# Altium footprint library Cypress Footprints.PcbLib: 193 footprints (part 12 of 13)
Each footprint in its own frame and in the unit in brackets; x right, y up, seen from the top. Pads: shape width x height; smd on the part's side, far side on the other; paste and mask are expansions set on the pad; w line width, h text height; cw(c..) or ccw(c..) is an arc to the next point about the centre after c.
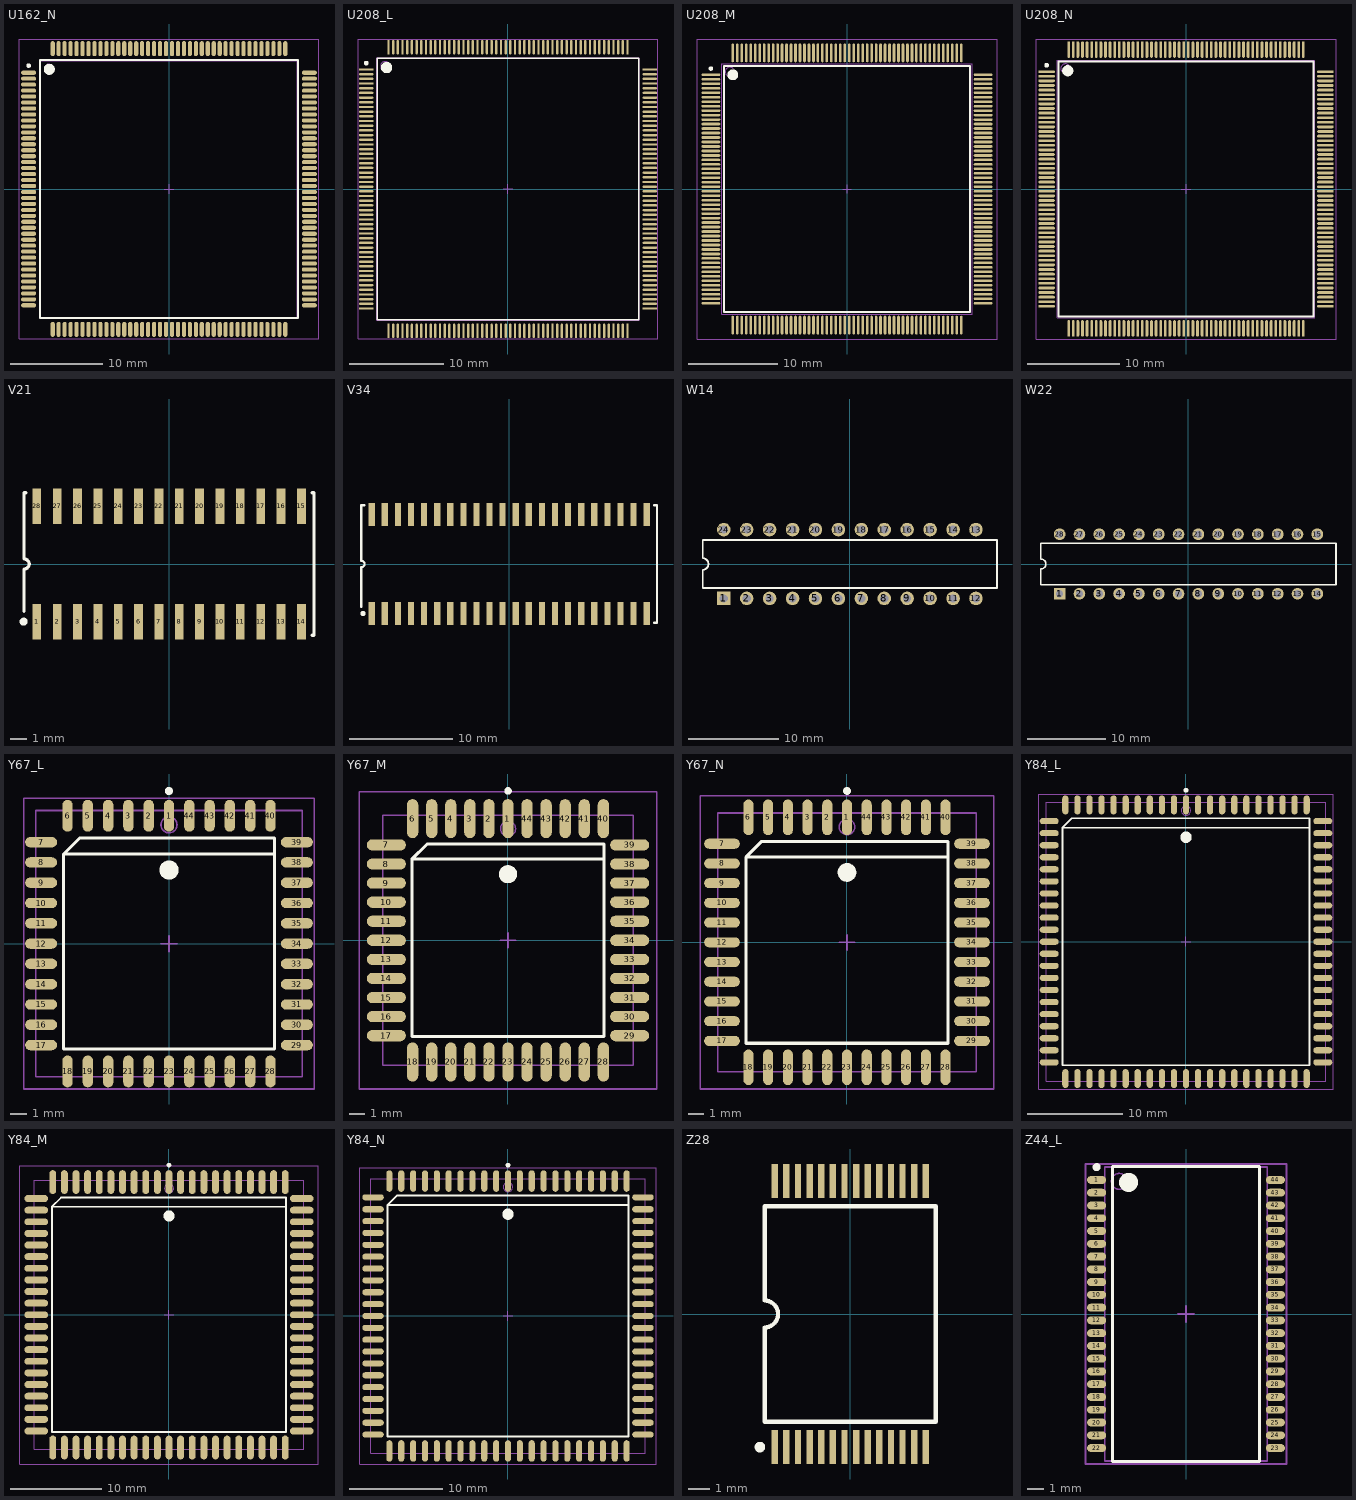
[diagram p11: the footprints below, top view; thin cyan lines are the x and y axes]

## U162_N [mm] "160-Pin Ceramic Cavity Up Quad Flat Pack 0.65 mm Pitch, IPC Medium Density"
height 2.79
pads (160):
  oval 1.65x0.45 smd: 1(-15.3,12.675) 2(-15.3,12.025) 3(-15.3,11.375) 4(-15.3,10.725) 5(-15.3,10.075) 6(-15.3,9.425) 7(-15.3,8.775) 8(-15.3,8.125) 9(-15.3,7.475) 10(-15.3,6.825) 11(-15.3,6.175) 12(-15.3,5.525) 13(-15.3,4.875) 14(-15.3,4.225) 15(-15.3,3.575) 16(-15.3,2.925) 17(-15.3,2.275) 18(-15.3,1.625) 19(-15.3,0.975) 20(-15.3,0.325) 21(-15.3,-0.325) 22(-15.3,-0.975) 23(-15.3,-1.625) 24(-15.3,-2.275) 25(-15.3,-2.925) 26(-15.3,-3.575) 27(-15.3,-4.225) 28(-15.3,-4.875) 29(-15.3,-5.525) 30(-15.3,-6.175) 31(-15.3,-6.825) 32(-15.3,-7.475) 33(-15.3,-8.125) 34(-15.3,-8.775) 35(-15.3,-9.425) 36(-15.3,-10.075) 37(-15.3,-10.725) 38(-15.3,-11.375) 39(-15.3,-12.025) 40(-15.3,-12.675) 81(15.3,-12.675) 82(15.3,-12.025) 83(15.3,-11.375) 84(15.3,-10.725) 85(15.3,-10.075) 86(15.3,-9.425) 87(15.3,-8.775) 88(15.3,-8.125) 89(15.3,-7.475) 90(15.3,-6.825) 91(15.3,-6.175) 92(15.3,-5.525) 93(15.3,-4.875) 94(15.3,-4.225) 95(15.3,-3.575) 96(15.3,-2.925) 97(15.3,-2.275) 98(15.3,-1.625) 99(15.3,-0.975) 100(15.3,-0.325) 101(15.3,0.325) 102(15.3,0.975) 103(15.3,1.625) 104(15.3,2.275) 105(15.3,2.925) 106(15.3,3.575) 107(15.3,4.225) 108(15.3,4.875) 109(15.3,5.525) 110(15.3,6.175) 111(15.3,6.825) 112(15.3,7.475) 113(15.3,8.125) 114(15.3,8.775) 115(15.3,9.425) 116(15.3,10.075) 117(15.3,10.725) 118(15.3,11.375) 119(15.3,12.025) 120(15.3,12.675)
  oval 0.45x1.65 smd: 41(-12.675,-15.3) 42(-12.025,-15.3) 43(-11.375,-15.3) 44(-10.725,-15.3) 45(-10.075,-15.3) 46(-9.425,-15.3) 47(-8.775,-15.3) 48(-8.125,-15.3) 49(-7.475,-15.3) 50(-6.825,-15.3) 51(-6.175,-15.3) 52(-5.525,-15.3) 53(-4.875,-15.3) 54(-4.225,-15.3) 55(-3.575,-15.3) 56(-2.925,-15.3) 57(-2.275,-15.3) 58(-1.625,-15.3) 59(-0.975,-15.3) 60(-0.325,-15.3) 61(0.325,-15.3) 62(0.975,-15.3) 63(1.625,-15.3) 64(2.275,-15.3) 65(2.925,-15.3) 66(3.575,-15.3) 67(4.225,-15.3) 68(4.875,-15.3) 69(5.525,-15.3) 70(6.175,-15.3) 71(6.825,-15.3) 72(7.475,-15.3) 73(8.125,-15.3) 74(8.775,-15.3) 75(9.425,-15.3) 76(10.075,-15.3) 77(10.725,-15.3) 78(11.375,-15.3) 79(12.025,-15.3) 80(12.675,-15.3) 121(12.675,15.3) 122(12.025,15.3) 123(11.375,15.3) 124(10.725,15.3) 125(10.075,15.3) 126(9.425,15.3) 127(8.775,15.3) 128(8.125,15.3) 129(7.475,15.3) 130(6.825,15.3) 131(6.175,15.3) 132(5.525,15.3) 133(4.875,15.3) 134(4.225,15.3) 135(3.575,15.3) 136(2.925,15.3) 137(2.275,15.3) 138(1.625,15.3) 139(0.975,15.3) 140(0.325,15.3) 141(-0.325,15.3) 142(-0.975,15.3) 143(-1.625,15.3) 144(-2.275,15.3) 145(-2.925,15.3) 146(-3.575,15.3) 147(-4.225,15.3) 148(-4.875,15.3) 149(-5.525,15.3) 150(-6.175,15.3) 151(-6.825,15.3) 152(-7.475,15.3) 153(-8.125,15.3) 154(-8.775,15.3) 155(-9.425,15.3) 156(-10.075,15.3) 157(-10.725,15.3) 158(-11.375,15.3) 159(-12.025,15.3) 160(-12.675,15.3)
Top Overlay:
  circle w0.6: c-13.05,13.05 r0.3
  circle w0.25: c-15.3,13.45 r0.125
  lines w0.2: -14.05,-14.05 14.05,-14.05 14.05,14.05 -14.05,14.05 -14.05,-14.05
Mechanical 13:
  circle w0.1: c-13.1,13.1 r0.5
  lines w0.1: -14,-14 14,-14 14,14 -14,14 -14,-14
Mechanical 15:
  lines w0.1: -0.5,0 0.5,0 ; 0,-0.5 0,0.5 ; -16.35,-16.35 16.35,-16.35 16.35,16.35 -16.35,16.35 -16.35,-16.35
3D body: height 2.79, standoff 0, extent -14,-14 14,14

## U208_L [mm] "208-Pin Ceramic Cavity Up Shrink Quad Flat Pack 0.5 mm Pitch, IPC High Density"
height 2.94
pads (208):
  oval 1.55x0.25 smd: 1(-15.125,12.75) 2(-15.125,12.25) 3(-15.125,11.75) 4(-15.125,11.25) 5(-15.125,10.75) 6(-15.125,10.25) 7(-15.125,9.75) 8(-15.125,9.25) 9(-15.125,8.75) 10(-15.125,8.25) 11(-15.125,7.75) 12(-15.125,7.25) 13(-15.125,6.75) 14(-15.125,6.25) 15(-15.125,5.75) 16(-15.125,5.25) 17(-15.125,4.75) 18(-15.125,4.25) 19(-15.125,3.75) 20(-15.125,3.25) 21(-15.125,2.75) 22(-15.125,2.25) 23(-15.125,1.75) 24(-15.125,1.25) 25(-15.125,0.75) 26(-15.125,0.25) 27(-15.125,-0.25) 28(-15.125,-0.75) 29(-15.125,-1.25) 30(-15.125,-1.75) 31(-15.125,-2.25) 32(-15.125,-2.75) 33(-15.125,-3.25) 34(-15.125,-3.75) 35(-15.125,-4.25) 36(-15.125,-4.75) 37(-15.125,-5.25) 38(-15.125,-5.75) 39(-15.125,-6.25) 40(-15.125,-6.75) 41(-15.125,-7.25) 42(-15.125,-7.75) 43(-15.125,-8.25) 44(-15.125,-8.75) 45(-15.125,-9.25) 46(-15.125,-9.75) 47(-15.125,-10.25) 48(-15.125,-10.75) 49(-15.125,-11.25) 50(-15.125,-11.75) 51(-15.125,-12.25) 52(-15.125,-12.75) 105(15.125,-12.75) 106(15.125,-12.25) 107(15.125,-11.75) 108(15.125,-11.25) 109(15.125,-10.75) 110(15.125,-10.25) 111(15.125,-9.75) 112(15.125,-9.25) 113(15.125,-8.75) 114(15.125,-8.25) 115(15.125,-7.75) 116(15.125,-7.25) 117(15.125,-6.75) 118(15.125,-6.25) 119(15.125,-5.75) 120(15.125,-5.25) 121(15.125,-4.75) 122(15.125,-4.25) 123(15.125,-3.75) 124(15.125,-3.25) 125(15.125,-2.75) 126(15.125,-2.25) 127(15.125,-1.75) 128(15.125,-1.25) 129(15.125,-0.75) 130(15.125,-0.25) 131(15.125,0.25) 132(15.125,0.75) 133(15.125,1.25) 134(15.125,1.75) 135(15.125,2.25) 136(15.125,2.75) 137(15.125,3.25) 138(15.125,3.75) 139(15.125,4.25) 140(15.125,4.75) 141(15.125,5.25) 142(15.125,5.75) 143(15.125,6.25) 144(15.125,6.75) 145(15.125,7.25) 146(15.125,7.75) 147(15.125,8.25) 148(15.125,8.75) 149(15.125,9.25) 150(15.125,9.75) 151(15.125,10.25) 152(15.125,10.75) 153(15.125,11.25) 154(15.125,11.75) 155(15.125,12.25) 156(15.125,12.75)
  oval 0.25x1.55 smd: 53(-12.75,-15.125) 54(-12.25,-15.125) 55(-11.75,-15.125) 56(-11.25,-15.125) 57(-10.75,-15.125) 58(-10.25,-15.125) 59(-9.75,-15.125) 60(-9.25,-15.125) 61(-8.75,-15.125) 62(-8.25,-15.125) 63(-7.75,-15.125) 64(-7.25,-15.125) 65(-6.75,-15.125) 66(-6.25,-15.125) 67(-5.75,-15.125) 68(-5.25,-15.125) 69(-4.75,-15.125) 70(-4.25,-15.125) 71(-3.75,-15.125) 72(-3.25,-15.125) 73(-2.75,-15.125) 74(-2.25,-15.125) 75(-1.75,-15.125) 76(-1.25,-15.125) 77(-0.75,-15.125) 78(-0.25,-15.125) 79(0.25,-15.125) 80(0.75,-15.125) 81(1.25,-15.125) 82(1.75,-15.125) 83(2.25,-15.125) 84(2.75,-15.125) 85(3.25,-15.125) 86(3.75,-15.125) 87(4.25,-15.125) 88(4.75,-15.125) 89(5.25,-15.125) 90(5.75,-15.125) 91(6.25,-15.125) 92(6.75,-15.125) 93(7.25,-15.125) 94(7.75,-15.125) 95(8.25,-15.125) 96(8.75,-15.125) 97(9.25,-15.125) 98(9.75,-15.125) 99(10.25,-15.125) 100(10.75,-15.125) 101(11.25,-15.125) 102(11.75,-15.125) 103(12.25,-15.125) 104(12.75,-15.125) 157(12.75,15.125) 158(12.25,15.125) 159(11.75,15.125) 160(11.25,15.125) 161(10.75,15.125) 162(10.25,15.125) 163(9.75,15.125) 164(9.25,15.125) 165(8.75,15.125) 166(8.25,15.125) 167(7.75,15.125) 168(7.25,15.125) 169(6.75,15.125) 170(6.25,15.125) 171(5.75,15.125) 172(5.25,15.125) 173(4.75,15.125) 174(4.25,15.125) 175(3.75,15.125) 176(3.25,15.125) 177(2.75,15.125) 178(2.25,15.125) 179(1.75,15.125) 180(1.25,15.125) 181(0.75,15.125) 182(0.25,15.125) 183(-0.25,15.125) 184(-0.75,15.125) 185(-1.25,15.125) 186(-1.75,15.125) 187(-2.25,15.125) 188(-2.75,15.125) 189(-3.25,15.125) 190(-3.75,15.125) 191(-4.25,15.125) 192(-4.75,15.125) 193(-5.25,15.125) 194(-5.75,15.125) 195(-6.25,15.125) 196(-6.75,15.125) 197(-7.25,15.125) 198(-7.75,15.125) 199(-8.25,15.125) 200(-8.75,15.125) 201(-9.25,15.125) 202(-9.75,15.125) 203(-10.25,15.125) 204(-10.75,15.125) 205(-11.25,15.125) 206(-11.75,15.125) 207(-12.25,15.125) 208(-12.75,15.125)
Top Overlay:
  circle w0.6: c-12.95,12.95 r0.3
  circle w0.25: c-15.125,13.425 r0.125
  lines w0.2: -13.95,-13.95 13.95,-13.95 13.95,13.95 -13.95,13.95 -13.95,-13.95
Mechanical 13:
  circle w0.1: c-13.1,13.1 r0.5
  lines w0.1: -14,-14 14,-14 14,14 -14,14 -14,-14
Mechanical 15:
  lines w0.1: -0.5,0 0.5,0 ; 0,-0.5 0,0.5 ; -16,-16 16,-16 16,16 -16,16 -16,-16
3D body: height 2.94, standoff 0, extent -14,-14 14,14

## U208_M [mm] "208-Pin Ceramic Cavity Up Shrink Quad Flat Pack 0.5 mm Pitch, IPC Low Density"
height 2.94
pads (208):
  oval 2.1x0.3 smd: 1(-15.2,12.75) 2(-15.2,12.25) 3(-15.2,11.75) 4(-15.2,11.25) 5(-15.2,10.75) 6(-15.2,10.25) 7(-15.2,9.75) 8(-15.2,9.25) 9(-15.2,8.75) 10(-15.2,8.25) 11(-15.2,7.75) 12(-15.2,7.25) 13(-15.2,6.75) 14(-15.2,6.25) 15(-15.2,5.75) 16(-15.2,5.25) 17(-15.2,4.75) 18(-15.2,4.25) 19(-15.2,3.75) 20(-15.2,3.25) 21(-15.2,2.75) 22(-15.2,2.25) 23(-15.2,1.75) 24(-15.2,1.25) 25(-15.2,0.75) 26(-15.2,0.25) 27(-15.2,-0.25) 28(-15.2,-0.75) 29(-15.2,-1.25) 30(-15.2,-1.75) 31(-15.2,-2.25) 32(-15.2,-2.75) 33(-15.2,-3.25) 34(-15.2,-3.75) 35(-15.2,-4.25) 36(-15.2,-4.75) 37(-15.2,-5.25) 38(-15.2,-5.75) 39(-15.2,-6.25) 40(-15.2,-6.75) 41(-15.2,-7.25) 42(-15.2,-7.75) 43(-15.2,-8.25) 44(-15.2,-8.75) 45(-15.2,-9.25) 46(-15.2,-9.75) 47(-15.2,-10.25) 48(-15.2,-10.75) 49(-15.2,-11.25) 50(-15.2,-11.75) 51(-15.2,-12.25) 52(-15.2,-12.75) 105(15.2,-12.75) 106(15.2,-12.25) 107(15.2,-11.75) 108(15.2,-11.25) 109(15.2,-10.75) 110(15.2,-10.25) 111(15.2,-9.75) 112(15.2,-9.25) 113(15.2,-8.75) 114(15.2,-8.25) 115(15.2,-7.75) 116(15.2,-7.25) 117(15.2,-6.75) 118(15.2,-6.25) 119(15.2,-5.75) 120(15.2,-5.25) 121(15.2,-4.75) 122(15.2,-4.25) 123(15.2,-3.75) 124(15.2,-3.25) 125(15.2,-2.75) 126(15.2,-2.25) 127(15.2,-1.75) 128(15.2,-1.25) 129(15.2,-0.75) 130(15.2,-0.25) 131(15.2,0.25) 132(15.2,0.75) 133(15.2,1.25) 134(15.2,1.75) 135(15.2,2.25) 136(15.2,2.75) 137(15.2,3.25) 138(15.2,3.75) 139(15.2,4.25) 140(15.2,4.75) 141(15.2,5.25) 142(15.2,5.75) 143(15.2,6.25) 144(15.2,6.75) 145(15.2,7.25) 146(15.2,7.75) 147(15.2,8.25) 148(15.2,8.75) 149(15.2,9.25) 150(15.2,9.75) 151(15.2,10.25) 152(15.2,10.75) 153(15.2,11.25) 154(15.2,11.75) 155(15.2,12.25) 156(15.2,12.75)
  oval 0.3x2.1 smd: 53(-12.75,-15.2) 54(-12.25,-15.2) 55(-11.75,-15.2) 56(-11.25,-15.2) 57(-10.75,-15.2) 58(-10.25,-15.2) 59(-9.75,-15.2) 60(-9.25,-15.2) 61(-8.75,-15.2) 62(-8.25,-15.2) 63(-7.75,-15.2) 64(-7.25,-15.2) 65(-6.75,-15.2) 66(-6.25,-15.2) 67(-5.75,-15.2) 68(-5.25,-15.2) 69(-4.75,-15.2) 70(-4.25,-15.2) 71(-3.75,-15.2) 72(-3.25,-15.2) 73(-2.75,-15.2) 74(-2.25,-15.2) 75(-1.75,-15.2) 76(-1.25,-15.2) 77(-0.75,-15.2) 78(-0.25,-15.2) 79(0.25,-15.2) 80(0.75,-15.2) 81(1.25,-15.2) 82(1.75,-15.2) 83(2.25,-15.2) 84(2.75,-15.2) 85(3.25,-15.2) 86(3.75,-15.2) 87(4.25,-15.2) 88(4.75,-15.2) 89(5.25,-15.2) 90(5.75,-15.2) 91(6.25,-15.2) 92(6.75,-15.2) 93(7.25,-15.2) 94(7.75,-15.2) 95(8.25,-15.2) 96(8.75,-15.2) 97(9.25,-15.2) 98(9.75,-15.2) 99(10.25,-15.2) 100(10.75,-15.2) 101(11.25,-15.2) 102(11.75,-15.2) 103(12.25,-15.2) 104(12.75,-15.2) 157(12.75,15.2) 158(12.25,15.2) 159(11.75,15.2) 160(11.25,15.2) 161(10.75,15.2) 162(10.25,15.2) 163(9.75,15.2) 164(9.25,15.2) 165(8.75,15.2) 166(8.25,15.2) 167(7.75,15.2) 168(7.25,15.2) 169(6.75,15.2) 170(6.25,15.2) 171(5.75,15.2) 172(5.25,15.2) 173(4.75,15.2) 174(4.25,15.2) 175(3.75,15.2) 176(3.25,15.2) 177(2.75,15.2) 178(2.25,15.2) 179(1.75,15.2) 180(1.25,15.2) 181(0.75,15.2) 182(0.25,15.2) 183(-0.25,15.2) 184(-0.75,15.2) 185(-1.25,15.2) 186(-1.75,15.2) 187(-2.25,15.2) 188(-2.75,15.2) 189(-3.25,15.2) 190(-3.75,15.2) 191(-4.25,15.2) 192(-4.75,15.2) 193(-5.25,15.2) 194(-5.75,15.2) 195(-6.25,15.2) 196(-6.75,15.2) 197(-7.25,15.2) 198(-7.75,15.2) 199(-8.25,15.2) 200(-8.75,15.2) 201(-9.25,15.2) 202(-9.75,15.2) 203(-10.25,15.2) 204(-10.75,15.2) 205(-11.25,15.2) 206(-11.75,15.2) 207(-12.25,15.2) 208(-12.75,15.2)
Top Overlay:
  circle w0.6: c-12.75,12.75 r0.3
  circle w0.25: c-15.2,13.45 r0.125
  lines w0.2: -13.75,-13.75 13.75,-13.75 13.75,13.75 -13.75,13.75 -13.75,-13.75
Mechanical 13:
  circle w0.1: c-13.1,13.1 r0.5
  lines w0.1: -14,-14 14,-14 14,14 -14,14 -14,-14
Mechanical 15:
  lines w0.1: -0.5,0 0.5,0 ; 0,-0.5 0,0.5 ; -16.75,-16.75 16.75,-16.75 16.75,16.75 -16.75,16.75 -16.75,-16.75
3D body: height 2.94, standoff 0, extent -14,-14 14,14

## U208_N [mm] "208-Pin Ceramic Cavity Up Shrink Quad Flat Pack 0.5 mm Pitch, IPC Medium Density"
height 2.94
pads (208):
  oval 1.8x0.3 smd: 1(-15.15,12.75) 2(-15.15,12.25) 3(-15.15,11.75) 4(-15.15,11.25) 5(-15.15,10.75) 6(-15.15,10.25) 7(-15.15,9.75) 8(-15.15,9.25) 9(-15.15,8.75) 10(-15.15,8.25) 11(-15.15,7.75) 12(-15.15,7.25) 13(-15.15,6.75) 14(-15.15,6.25) 15(-15.15,5.75) 16(-15.15,5.25) 17(-15.15,4.75) 18(-15.15,4.25) 19(-15.15,3.75) 20(-15.15,3.25) 21(-15.15,2.75) 22(-15.15,2.25) 23(-15.15,1.75) 24(-15.15,1.25) 25(-15.15,0.75) 26(-15.15,0.25) 27(-15.15,-0.25) 28(-15.15,-0.75) 29(-15.15,-1.25) 30(-15.15,-1.75) 31(-15.15,-2.25) 32(-15.15,-2.75) 33(-15.15,-3.25) 34(-15.15,-3.75) 35(-15.15,-4.25) 36(-15.15,-4.75) 37(-15.15,-5.25) 38(-15.15,-5.75) 39(-15.15,-6.25) 40(-15.15,-6.75) 41(-15.15,-7.25) 42(-15.15,-7.75) 43(-15.15,-8.25) 44(-15.15,-8.75) 45(-15.15,-9.25) 46(-15.15,-9.75) 47(-15.15,-10.25) 48(-15.15,-10.75) 49(-15.15,-11.25) 50(-15.15,-11.75) 51(-15.15,-12.25) 52(-15.15,-12.75) 105(15.15,-12.75) 106(15.15,-12.25) 107(15.15,-11.75) 108(15.15,-11.25) 109(15.15,-10.75) 110(15.15,-10.25) 111(15.15,-9.75) 112(15.15,-9.25) 113(15.15,-8.75) 114(15.15,-8.25) 115(15.15,-7.75) 116(15.15,-7.25) 117(15.15,-6.75) 118(15.15,-6.25) 119(15.15,-5.75) 120(15.15,-5.25) 121(15.15,-4.75) 122(15.15,-4.25) 123(15.15,-3.75) 124(15.15,-3.25) 125(15.15,-2.75) 126(15.15,-2.25) 127(15.15,-1.75) 128(15.15,-1.25) 129(15.15,-0.75) 130(15.15,-0.25) 131(15.15,0.25) 132(15.15,0.75) 133(15.15,1.25) 134(15.15,1.75) 135(15.15,2.25) 136(15.15,2.75) 137(15.15,3.25) 138(15.15,3.75) 139(15.15,4.25) 140(15.15,4.75) 141(15.15,5.25) 142(15.15,5.75) 143(15.15,6.25) 144(15.15,6.75) 145(15.15,7.25) 146(15.15,7.75) 147(15.15,8.25) 148(15.15,8.75) 149(15.15,9.25) 150(15.15,9.75) 151(15.15,10.25) 152(15.15,10.75) 153(15.15,11.25) 154(15.15,11.75) 155(15.15,12.25) 156(15.15,12.75)
  oval 0.3x1.8 smd: 53(-12.75,-15.15) 54(-12.25,-15.15) 55(-11.75,-15.15) 56(-11.25,-15.15) 57(-10.75,-15.15) 58(-10.25,-15.15) 59(-9.75,-15.15) 60(-9.25,-15.15) 61(-8.75,-15.15) 62(-8.25,-15.15) 63(-7.75,-15.15) 64(-7.25,-15.15) 65(-6.75,-15.15) 66(-6.25,-15.15) 67(-5.75,-15.15) 68(-5.25,-15.15) 69(-4.75,-15.15) 70(-4.25,-15.15) 71(-3.75,-15.15) 72(-3.25,-15.15) 73(-2.75,-15.15) 74(-2.25,-15.15) 75(-1.75,-15.15) 76(-1.25,-15.15) 77(-0.75,-15.15) 78(-0.25,-15.15) 79(0.25,-15.15) 80(0.75,-15.15) 81(1.25,-15.15) 82(1.75,-15.15) 83(2.25,-15.15) 84(2.75,-15.15) 85(3.25,-15.15) 86(3.75,-15.15) 87(4.25,-15.15) 88(4.75,-15.15) 89(5.25,-15.15) 90(5.75,-15.15) 91(6.25,-15.15) 92(6.75,-15.15) 93(7.25,-15.15) 94(7.75,-15.15) 95(8.25,-15.15) 96(8.75,-15.15) 97(9.25,-15.15) 98(9.75,-15.15) 99(10.25,-15.15) 100(10.75,-15.15) 101(11.25,-15.15) 102(11.75,-15.15) 103(12.25,-15.15) 104(12.75,-15.15) 157(12.75,15.15) 158(12.25,15.15) 159(11.75,15.15) 160(11.25,15.15) 161(10.75,15.15) 162(10.25,15.15) 163(9.75,15.15) 164(9.25,15.15) 165(8.75,15.15) 166(8.25,15.15) 167(7.75,15.15) 168(7.25,15.15) 169(6.75,15.15) 170(6.25,15.15) 171(5.75,15.15) 172(5.25,15.15) 173(4.75,15.15) 174(4.25,15.15) 175(3.75,15.15) 176(3.25,15.15) 177(2.75,15.15) 178(2.25,15.15) 179(1.75,15.15) 180(1.25,15.15) 181(0.75,15.15) 182(0.25,15.15) 183(-0.25,15.15) 184(-0.75,15.15) 185(-1.25,15.15) 186(-1.75,15.15) 187(-2.25,15.15) 188(-2.75,15.15) 189(-3.25,15.15) 190(-3.75,15.15) 191(-4.25,15.15) 192(-4.75,15.15) 193(-5.25,15.15) 194(-5.75,15.15) 195(-6.25,15.15) 196(-6.75,15.15) 197(-7.25,15.15) 198(-7.75,15.15) 199(-8.25,15.15) 200(-8.75,15.15) 201(-9.25,15.15) 202(-9.75,15.15) 203(-10.25,15.15) 204(-10.75,15.15) 205(-11.25,15.15) 206(-11.75,15.15) 207(-12.25,15.15) 208(-12.75,15.15)
Top Overlay:
  circle w0.6: c-12.85,12.85 r0.3
  circle w0.25: c-15.15,13.45 r0.125
  lines w0.2: -13.85,-13.85 13.85,-13.85 13.85,13.85 -13.85,13.85 -13.85,-13.85
Mechanical 13:
  circle w0.1: c-13.1,13.1 r0.5
  lines w0.1: -14,-14 14,-14 14,14 -14,14 -14,-14
Mechanical 15:
  lines w0.1: -0.5,0 0.5,0 ; 0,-0.5 0,0.5 ; -16.3,-16.3 16.3,-16.3 16.3,16.3 -16.3,16.3 -16.3,-16.3
3D body: height 2.94, standoff 0, extent -14,-14 14,14

## V21 [mm] "SOJ, Molded; 28 Leads; Body Width 7.5 mm"
height 3.56
pads (28):
  rect 0.55x2.2 smd: 1(-8.255,-3.6) 2(-6.985,-3.6) 3(-5.715,-3.6) 4(-4.445,-3.6) 5(-3.175,-3.6) 6(-1.905,-3.6) 7(-0.635,-3.6) 8(0.635,-3.6) 9(1.905,-3.6) 10(3.175,-3.6) 11(4.445,-3.6) 12(5.715,-3.6) 13(6.985,-3.6) 14(8.255,-3.6) 15(8.255,3.6) 16(6.985,3.6) 17(5.715,3.6) 18(4.445,3.6) 19(3.175,3.6) 20(1.905,3.6) 21(0.635,3.6) 22(-0.635,3.6) 23(-1.905,3.6) 24(-3.175,3.6) 25(-4.445,3.6) 26(-5.715,3.6) 27(-6.985,3.6) 28(-8.255,3.6)
Top Overlay:
  circle w0.25: c-9.08,-3.6 r0.125
  lines w0.2: -9.05,-2.95 -9.05,-0.318 ccw(c-9.05,0) -9.05,0.318 -9.05,4.45 -8.93,4.45 ; 8.93,-4.45 9.05,-4.45 9.05,4.45 8.93,4.45

## V34 [mm] "SOJ, Molded; 44 Leads; Body Width 10.16 mm"
height 3.76
pads (44):
  rect 0.6x2.2 smd: 1(-13.335,-4.8) 2(-12.065,-4.8) 3(-10.795,-4.8) 4(-9.525,-4.8) 5(-8.255,-4.8) 6(-6.985,-4.8) 7(-5.715,-4.8) 8(-4.445,-4.8) 9(-3.175,-4.8) 10(-1.905,-4.8) 11(-0.635,-4.8) 12(0.635,-4.8) 13(1.905,-4.8) 14(3.175,-4.8) 15(4.445,-4.8) 16(5.715,-4.8) 17(6.985,-4.8) 18(8.255,-4.8) 19(9.525,-4.8) 20(10.795,-4.8) 21(12.065,-4.8) 22(13.335,-4.8) 23(13.335,4.8) 24(12.065,4.8) 25(10.795,4.8) 26(9.525,4.8) 27(8.255,4.8) 28(6.985,4.8) 29(5.715,4.8) 30(4.445,4.8) 31(3.175,4.8) 32(1.905,4.8) 33(0.635,4.8) 34(-0.635,4.8) 35(-1.905,4.8) 36(-3.175,4.8) 37(-4.445,4.8) 38(-5.715,4.8) 39(-6.985,4.8) 40(-8.255,4.8) 41(-9.525,4.8) 42(-10.795,4.8) 43(-12.065,4.8) 44(-13.335,4.8)
Top Overlay:
  circle w0.25: c-14.185,-4.8 r0.125
  lines w0.2: -14.35,-4.15 -14.35,-0.317 ccw(c-14.35,0) -14.35,0.318 -14.35,5.7 -14.035,5.7 ; 14.035,-5.7 14.35,-5.7 14.35,5.7 14.035,5.7

## W14 [mm] "CerDIP, Window; 24 Leads; Row Spacing 7.62 mm; Pitch 2.54 mm"
height 5.08
pads (24):
  rect 1.5x1.5 hole 0.9: 1(-13.97,-3.81)
  round 1.5 hole 0.9: 2(-11.43,-3.81) 3(-8.89,-3.81) 4(-6.35,-3.81) 5(-3.81,-3.81) 6(-1.27,-3.81) 7(1.27,-3.81) 8(3.81,-3.81) 9(6.35,-3.81) 10(8.89,-3.81) 11(11.43,-3.81) 12(13.97,-3.81) 13(13.97,3.81) 14(11.43,3.81) 15(8.89,3.81) 16(6.35,3.81) 17(3.81,3.81) 18(1.27,3.81) 19(-1.27,3.81) 20(-3.81,3.81) 21(-6.35,3.81) 22(-8.89,3.81) 23(-11.43,3.81) 24(-13.97,3.81)
Top Overlay:
  lines w0.2: -16.3,-2.65 16.3,-2.65 16.3,2.65 -16.3,2.65 -16.3,0.635 cw(c-16.3,0) -16.3,-0.635 -16.3,-2.65

## W22 [mm] "CerDIP, Window; 28 Leads; Row Spacing 7.62 mm; Pitch 2.54 mm"
height 5.08
pads (28):
  rect 1.5x1.5 hole 0.9: 1(-16.51,-3.81)
  round 1.5 hole 0.9: 2(-13.97,-3.81) 3(-11.43,-3.81) 4(-8.89,-3.81) 5(-6.35,-3.81) 6(-3.81,-3.81) 7(-1.27,-3.81) 8(1.27,-3.81) 9(3.81,-3.81) 10(6.35,-3.81) 11(8.89,-3.81) 12(11.43,-3.81) 13(13.97,-3.81) 14(16.51,-3.81) 15(16.51,3.81) 16(13.97,3.81) 17(11.43,3.81) 18(8.89,3.81) 19(6.35,3.81) 20(3.81,3.81) 21(1.27,3.81) 22(-1.27,3.81) 23(-3.81,3.81) 24(-6.35,3.81) 25(-8.89,3.81) 26(-11.43,3.81) 27(-13.97,3.81) 28(-16.51,3.81)
Top Overlay:
  lines w0.2: -18.9,-2.65 18.9,-2.65 18.9,2.65 -18.9,2.65 -18.9,0.635 cw(c-18.9,0) -18.9,-0.635 -18.9,-2.65

## Y67_L [mm] "44-Pin Ceramic Leaded Chip Carrier 1.27 mm Pitch, IPC High Density"
height 4.83
pads (44):
  oval 0.65x2 smd: 1(0,8) 2(-1.27,8) 3(-2.54,8) 4(-3.81,8) 5(-5.08,8) 6(-6.35,8) 18(-6.35,-8) 19(-5.08,-8) 20(-3.81,-8) 21(-2.54,-8) 22(-1.27,-8) 23(0,-8) 24(1.27,-8) 25(2.54,-8) 26(3.81,-8) 27(5.08,-8) 28(6.35,-8) 40(6.35,8) 41(5.08,8) 42(3.81,8) 43(2.54,8) 44(1.27,8)
  oval 2x0.65 smd: 7(-8,6.35) 8(-8,5.08) 9(-8,3.81) 10(-8,2.54) 11(-8,1.27) 12(-8,0) 13(-8,-1.27) 14(-8,-2.54) 15(-8,-3.81) 16(-8,-5.08) 17(-8,-6.35) 29(8,-6.35) 30(8,-5.08) 31(8,-3.81) 32(8,-2.54) 33(8,-1.27) 34(8,0) 35(8,1.27) 36(8,2.54) 37(8,3.81) 38(8,5.08) 39(8,6.35)
Top Overlay:
  circle w0.25: c0,9.55 r0.125
  circle w0.6: c0,4.6 r0.3
  lines w0.2: 6.6,5.6 -6.6,5.6 ; -6.6,5.6 -5.6,6.6 6.6,6.6 6.6,-6.6 -6.6,-6.6 -6.6,5.6
Mechanical 13:
  circle w0.1: c0,7.43 r0.5
  lines w0.1: -8.33,-8.33 -8.33,8.33 8.33,8.33 8.33,-8.33 -8.33,-8.33
Mechanical 15:
  lines w0.1: -0.5,0 0.5,0 ; 0,-0.5 0,0.5 ; -9.1,-9.1 -9.1,9.1 9.1,9.1 9.1,-9.1 -9.1,-9.1
3D body: height 4.83, standoff 0, extent -8.33,-8.33 8.33,8.33

## Y67_M [mm] "44-Pin Ceramic Leaded Chip Carrier 1.27 mm Pitch, IPC Low Density"
height 4.83
pads (44):
  oval 0.75x2.6 smd: 1(0,8.1) 2(-1.27,8.1) 3(-2.54,8.1) 4(-3.81,8.1) 5(-5.08,8.1) 6(-6.35,8.1) 18(-6.35,-8.1) 19(-5.08,-8.1) 20(-3.81,-8.1) 21(-2.54,-8.1) 22(-1.27,-8.1) 23(0,-8.1) 24(1.27,-8.1) 25(2.54,-8.1) 26(3.81,-8.1) 27(5.08,-8.1) 28(6.35,-8.1) 40(6.35,8.1) 41(5.08,8.1) 42(3.81,8.1) 43(2.54,8.1) 44(1.27,8.1)
  oval 2.6x0.75 smd: 7(-8.1,6.35) 8(-8.1,5.08) 9(-8.1,3.81) 10(-8.1,2.54) 11(-8.1,1.27) 12(-8.1,0) 13(-8.1,-1.27) 14(-8.1,-2.54) 15(-8.1,-3.81) 16(-8.1,-5.08) 17(-8.1,-6.35) 29(8.1,-6.35) 30(8.1,-5.08) 31(8.1,-3.81) 32(8.1,-2.54) 33(8.1,-1.27) 34(8.1,0) 35(8.1,1.27) 36(8.1,2.54) 37(8.1,3.81) 38(8.1,5.08) 39(8.1,6.35)
Top Overlay:
  circle w0.25: c0,9.95 r0.125
  circle w0.6: c0,4.4 r0.3
  lines w0.2: 6.4,5.4 -6.4,5.4 ; -6.4,5.4 -5.4,6.4 6.4,6.4 6.4,-6.4 -6.4,-6.4 -6.4,5.4
Mechanical 13:
  circle w0.1: c0,7.43 r0.5
  lines w0.1: -8.33,-8.33 -8.33,8.33 8.33,8.33 8.33,-8.33 -8.33,-8.33
Mechanical 15:
  lines w0.1: -0.5,0 0.5,0 ; 0,-0.5 0,0.5 ; -9.9,-9.9 -9.9,9.9 9.9,9.9 9.9,-9.9 -9.9,-9.9
3D body: height 4.83, standoff 0, extent -8.33,-8.33 8.33,8.33

## Y67_N [mm] "44-Pin Ceramic Leaded Chip Carrier 1.27 mm Pitch, IPC Medium Density"
height 4.83
pads (44):
  oval 0.65x2.3 smd: 1(0,8.05) 2(-1.27,8.05) 3(-2.54,8.05) 4(-3.81,8.05) 5(-5.08,8.05) 6(-6.35,8.05) 18(-6.35,-8.05) 19(-5.08,-8.05) 20(-3.81,-8.05) 21(-2.54,-8.05) 22(-1.27,-8.05) 23(0,-8.05) 24(1.27,-8.05) 25(2.54,-8.05) 26(3.81,-8.05) 27(5.08,-8.05) 28(6.35,-8.05) 40(6.35,8.05) 41(5.08,8.05) 42(3.81,8.05) 43(2.54,8.05) 44(1.27,8.05)
  oval 2.3x0.65 smd: 7(-8.05,6.35) 8(-8.05,5.08) 9(-8.05,3.81) 10(-8.05,2.54) 11(-8.05,1.27) 12(-8.05,0) 13(-8.05,-1.27) 14(-8.05,-2.54) 15(-8.05,-3.81) 16(-8.05,-5.08) 17(-8.05,-6.35) 29(8.05,-6.35) 30(8.05,-5.08) 31(8.05,-3.81) 32(8.05,-2.54) 33(8.05,-1.27) 34(8.05,0) 35(8.05,1.27) 36(8.05,2.54) 37(8.05,3.81) 38(8.05,5.08) 39(8.05,6.35)
Top Overlay:
  circle w0.25: c0,9.75 r0.125
  circle w0.6: c0,4.5 r0.3
  lines w0.2: 6.5,5.5 -6.5,5.5 ; -6.5,5.5 -5.5,6.5 6.5,6.5 6.5,-6.5 -6.5,-6.5 -6.5,5.5
Mechanical 13:
  circle w0.1: c0,7.43 r0.5
  lines w0.1: -8.33,-8.33 -8.33,8.33 8.33,8.33 8.33,-8.33 -8.33,-8.33
Mechanical 15:
  lines w0.1: -0.5,0 0.5,0 ; 0,-0.5 0,0.5 ; -9.45,-9.45 -9.45,9.45 9.45,9.45 9.45,-9.45 -9.45,-9.45
3D body: height 4.83, standoff 0, extent -8.33,-8.33 8.33,8.33

## Y84_L [mm] "84-Pin Ceramic Leaded Chip Carrier 1.27 mm Pitch, IPC High Density"
height 4.83
pads (84):
  oval 0.65x2 smd: 1(0,14.4) 2(-1.27,14.4) 3(-2.54,14.4) 4(-3.81,14.4) 5(-5.08,14.4) 6(-6.35,14.4) 7(-7.62,14.4) 8(-8.89,14.4) 9(-10.16,14.4) 10(-11.43,14.4) 11(-12.7,14.4) 33(-12.7,-14.4) 34(-11.43,-14.4) 35(-10.16,-14.4) 36(-8.89,-14.4) 37(-7.62,-14.4) 38(-6.35,-14.4) 39(-5.08,-14.4) 40(-3.81,-14.4) 41(-2.54,-14.4) 42(-1.27,-14.4) 43(0,-14.4) 44(1.27,-14.4) 45(2.54,-14.4) 46(3.81,-14.4) 47(5.08,-14.4) 48(6.35,-14.4) 49(7.62,-14.4) 50(8.89,-14.4) 51(10.16,-14.4) 52(11.43,-14.4) 53(12.7,-14.4) 75(12.7,14.4) 76(11.43,14.4) 77(10.16,14.4) 78(8.89,14.4) 79(7.62,14.4) 80(6.35,14.4) 81(5.08,14.4) 82(3.81,14.4) 83(2.54,14.4) 84(1.27,14.4)
  oval 2x0.65 smd: 12(-14.4,12.7) 13(-14.4,11.43) 14(-14.4,10.16) 15(-14.4,8.89) 16(-14.4,7.62) 17(-14.4,6.35) 18(-14.4,5.08) 19(-14.4,3.81) 20(-14.4,2.54) 21(-14.4,1.27) 22(-14.4,0) 23(-14.4,-1.27) 24(-14.4,-2.54) 25(-14.4,-3.81) 26(-14.4,-5.08) 27(-14.4,-6.35) 28(-14.4,-7.62) 29(-14.4,-8.89) 30(-14.4,-10.16) 31(-14.4,-11.43) 32(-14.4,-12.7) 54(14.4,-12.7) 55(14.4,-11.43) 56(14.4,-10.16) 57(14.4,-8.89) 58(14.4,-7.62) 59(14.4,-6.35) 60(14.4,-5.08) 61(14.4,-3.81) 62(14.4,-2.54) 63(14.4,-1.27) 64(14.4,0) 65(14.4,1.27) 66(14.4,2.54) 67(14.4,3.81) 68(14.4,5.08) 69(14.4,6.35) 70(14.4,7.62) 71(14.4,8.89) 72(14.4,10.16) 73(14.4,11.43) 74(14.4,12.7)
Top Overlay:
  circle w0.25: c0,15.95 r0.125
  circle w0.6: c0,11 r0.3
  lines w0.2: 13,12 -13,12 ; -13,12 -12,13 13,13 13,-13 -13,-13 -13,12
Mechanical 13:
  circle w0.1: c0,13.805 r0.5
  lines w0.1: -14.705,-14.705 -14.705,14.705 14.705,14.705 14.705,-14.705 -14.705,-14.705
Mechanical 15:
  lines w0.1: -0.5,0 0.5,0 ; 0,-0.5 0,0.5 ; -15.5,-15.5 -15.5,15.5 15.5,15.5 15.5,-15.5 -15.5,-15.5
3D body: height 4.83, standoff 0, extent -14.705,-14.705 14.705,14.705

## Y84_M [mm] "84-Pin Ceramic Leaded Chip Carrier 1.27 mm Pitch, IPC Low Density"
height 4.83
pads (84):
  oval 0.75x2.6 smd: 1(0,14.5) 2(-1.27,14.5) 3(-2.54,14.5) 4(-3.81,14.5) 5(-5.08,14.5) 6(-6.35,14.5) 7(-7.62,14.5) 8(-8.89,14.5) 9(-10.16,14.5) 10(-11.43,14.5) 11(-12.7,14.5) 33(-12.7,-14.5) 34(-11.43,-14.5) 35(-10.16,-14.5) 36(-8.89,-14.5) 37(-7.62,-14.5) 38(-6.35,-14.5) 39(-5.08,-14.5) 40(-3.81,-14.5) 41(-2.54,-14.5) 42(-1.27,-14.5) 43(0,-14.5) 44(1.27,-14.5) 45(2.54,-14.5) 46(3.81,-14.5) 47(5.08,-14.5) 48(6.35,-14.5) 49(7.62,-14.5) 50(8.89,-14.5) 51(10.16,-14.5) 52(11.43,-14.5) 53(12.7,-14.5) 75(12.7,14.5) 76(11.43,14.5) 77(10.16,14.5) 78(8.89,14.5) 79(7.62,14.5) 80(6.35,14.5) 81(5.08,14.5) 82(3.81,14.5) 83(2.54,14.5) 84(1.27,14.5)
  oval 2.6x0.75 smd: 12(-14.5,12.7) 13(-14.5,11.43) 14(-14.5,10.16) 15(-14.5,8.89) 16(-14.5,7.62) 17(-14.5,6.35) 18(-14.5,5.08) 19(-14.5,3.81) 20(-14.5,2.54) 21(-14.5,1.27) 22(-14.5,0) 23(-14.5,-1.27) 24(-14.5,-2.54) 25(-14.5,-3.81) 26(-14.5,-5.08) 27(-14.5,-6.35) 28(-14.5,-7.62) 29(-14.5,-8.89) 30(-14.5,-10.16) 31(-14.5,-11.43) 32(-14.5,-12.7) 54(14.5,-12.7) 55(14.5,-11.43) 56(14.5,-10.16) 57(14.5,-8.89) 58(14.5,-7.62) 59(14.5,-6.35) 60(14.5,-5.08) 61(14.5,-3.81) 62(14.5,-2.54) 63(14.5,-1.27) 64(14.5,0) 65(14.5,1.27) 66(14.5,2.54) 67(14.5,3.81) 68(14.5,5.08) 69(14.5,6.35) 70(14.5,7.62) 71(14.5,8.89) 72(14.5,10.16) 73(14.5,11.43) 74(14.5,12.7)
Top Overlay:
  circle w0.25: c0,16.35 r0.125
  circle w0.6: c0,10.8 r0.3
  lines w0.2: 12.8,11.8 -12.8,11.8 ; -12.8,11.8 -11.8,12.8 12.8,12.8 12.8,-12.8 -12.8,-12.8 -12.8,11.8
Mechanical 13:
  circle w0.1: c0,13.805 r0.5
  lines w0.1: -14.705,-14.705 -14.705,14.705 14.705,14.705 14.705,-14.705 -14.705,-14.705
Mechanical 15:
  lines w0.1: -0.5,0 0.5,0 ; 0,-0.5 0,0.5 ; -16.3,-16.3 -16.3,16.3 16.3,16.3 16.3,-16.3 -16.3,-16.3
3D body: height 4.83, standoff 0, extent -14.705,-14.705 14.705,14.705

## Y84_N [mm] "84-Pin Ceramic Leaded Chip Carrier 1.27 mm Pitch, IPC Medium Density"
height 4.83
pads (84):
  oval 0.65x2.3 smd: 1(0,14.45) 2(-1.27,14.45) 3(-2.54,14.45) 4(-3.81,14.45) 5(-5.08,14.45) 6(-6.35,14.45) 7(-7.62,14.45) 8(-8.89,14.45) 9(-10.16,14.45) 10(-11.43,14.45) 11(-12.7,14.45) 33(-12.7,-14.45) 34(-11.43,-14.45) 35(-10.16,-14.45) 36(-8.89,-14.45) 37(-7.62,-14.45) 38(-6.35,-14.45) 39(-5.08,-14.45) 40(-3.81,-14.45) 41(-2.54,-14.45) 42(-1.27,-14.45) 43(0,-14.45) 44(1.27,-14.45) 45(2.54,-14.45) 46(3.81,-14.45) 47(5.08,-14.45) 48(6.35,-14.45) 49(7.62,-14.45) 50(8.89,-14.45) 51(10.16,-14.45) 52(11.43,-14.45) 53(12.7,-14.45) 75(12.7,14.45) 76(11.43,14.45) 77(10.16,14.45) 78(8.89,14.45) 79(7.62,14.45) 80(6.35,14.45) 81(5.08,14.45) 82(3.81,14.45) 83(2.54,14.45) 84(1.27,14.45)
  oval 2.3x0.65 smd: 12(-14.45,12.7) 13(-14.45,11.43) 14(-14.45,10.16) 15(-14.45,8.89) 16(-14.45,7.62) 17(-14.45,6.35) 18(-14.45,5.08) 19(-14.45,3.81) 20(-14.45,2.54) 21(-14.45,1.27) 22(-14.45,0) 23(-14.45,-1.27) 24(-14.45,-2.54) 25(-14.45,-3.81) 26(-14.45,-5.08) 27(-14.45,-6.35) 28(-14.45,-7.62) 29(-14.45,-8.89) 30(-14.45,-10.16) 31(-14.45,-11.43) 32(-14.45,-12.7) 54(14.45,-12.7) 55(14.45,-11.43) 56(14.45,-10.16) 57(14.45,-8.89) 58(14.45,-7.62) 59(14.45,-6.35) 60(14.45,-5.08) 61(14.45,-3.81) 62(14.45,-2.54) 63(14.45,-1.27) 64(14.45,0) 65(14.45,1.27) 66(14.45,2.54) 67(14.45,3.81) 68(14.45,5.08) 69(14.45,6.35) 70(14.45,7.62) 71(14.45,8.89) 72(14.45,10.16) 73(14.45,11.43) 74(14.45,12.7)
Top Overlay:
  circle w0.25: c0,16.15 r0.125
  circle w0.6: c0,10.9 r0.3
  lines w0.2: 12.9,11.9 -12.9,11.9 ; -12.9,11.9 -11.9,12.9 12.9,12.9 12.9,-12.9 -12.9,-12.9 -12.9,11.9
Mechanical 13:
  circle w0.1: c0,13.805 r0.5
  lines w0.1: -14.705,-14.705 -14.705,14.705 14.705,14.705 14.705,-14.705 -14.705,-14.705
Mechanical 15:
  lines w0.1: -0.5,0 0.5,0 ; 0,-0.5 0,0.5 ; -15.85,-15.85 -15.85,15.85 15.85,15.85 15.85,-15.85 -15.85,-15.85
3D body: height 4.83, standoff 0, extent -14.705,-14.705 14.705,14.705

## Z28 [mm] "Shrink Small Outline; 28 Leads; Body Width 11.8 mm; Pitch 0.55 mm"
height 1.2
pads (28):
  rect 0.3x1.6 smd: 1(-3.575,-6.3) 2(-3.025,-6.3) 3(-2.475,-6.3) 4(-1.925,-6.3) 5(-1.375,-6.3) 6(-0.825,-6.3) 7(-0.275,-6.3) 8(0.275,-6.3) 9(0.825,-6.3) 10(1.375,-6.3) 11(1.925,-6.3) 12(2.475,-6.3) 13(3.025,-6.3) 14(3.575,-6.3) 15(3.575,6.3) 16(3.025,6.3) 17(2.475,6.3) 18(1.925,6.3) 19(1.375,6.3) 20(0.825,6.3) 21(0.275,6.3) 22(-0.275,6.3) 23(-0.825,6.3) 24(-1.375,6.3) 25(-1.925,6.3) 26(-2.475,6.3) 27(-3.025,6.3) 28(-3.575,6.3)
Top Overlay:
  circle w0.25: c-4.275,-6.3 r0.125
  lines w0.2: -4.05,-5.1 -4.05,-0.635 ccw(c-4.05,0) -4.05,0.635 -4.05,5.1 4.05,5.1 4.05,-5.1 -4.05,-5.1

## Z44_L [mm] "44-Pin Small Outline Package 0.8 mm Pitch, IPC High Density"
height 1.2
pads (44):
  oval 1.2x0.5 smd: 1(-5.6,8.4) 2(-5.6,7.6) 3(-5.6,6.8) 4(-5.6,6) 5(-5.6,5.2) 6(-5.6,4.4) 7(-5.6,3.6) 8(-5.6,2.8) 9(-5.6,2) 10(-5.6,1.2) 11(-5.6,0.4) 12(-5.6,-0.4) 13(-5.6,-1.2) 14(-5.6,-2) 15(-5.6,-2.8) 16(-5.6,-3.6) 17(-5.6,-4.4) 18(-5.6,-5.2) 19(-5.6,-6) 20(-5.6,-6.8) 21(-5.6,-7.6) 22(-5.6,-8.4) 23(5.6,-8.4) 24(5.6,-7.6) 25(5.6,-6.8) 26(5.6,-6) 27(5.6,-5.2) 28(5.6,-4.4) 29(5.6,-3.6) 30(5.6,-2.8) 31(5.6,-2) 32(5.6,-1.2) 33(5.6,-0.4) 34(5.6,0.4) 35(5.6,1.2) 36(5.6,2) 37(5.6,2.8) 38(5.6,3.6) 39(5.6,4.4) 40(5.6,5.2) 41(5.6,6) 42(5.6,6.8) 43(5.6,7.6) 44(5.6,8.4)
Top Overlay:
  circle w0.25: c-5.6,9.2 r0.125
  circle w0.6: c-3.6,8.25 r0.3
  lines w0.2: -4.6,-9.25 -4.6,9.25 4.6,9.25 4.6,-9.25 -4.6,-9.25
Mechanical 13:
  circle w0.1: c-4.18,8.31 r0.5
  lines w0.1: -5.08,-9.21 -5.08,9.21 5.08,9.21 5.08,-9.21 -5.08,-9.21
Mechanical 15:
  lines w0.1: -0.5,0 0.5,0 ; 0,-0.5 0,0.5 ; -6.3,-9.4 -6.3,9.4 6.3,9.4 6.3,-9.4 -6.3,-9.4
3D body: height 1.2, standoff 0, extent -5.08,-9.21 5.08,9.21